# Altium integrated library SMTB-0827-TW-R.IntLib: 1 symbol
Pins are listed as number, name and electrical type; pins without a type are passive.

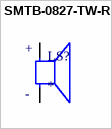
[diagram p0: symbol SMTB-0827-TW-R]

## SMTB-0827-TW-R
designator LS?
SURFACE MOUNT TRANSDUCER 3.6 V0-P; MP: SMTB-0827-TW-R; MF: PUI Audio, Inc.; Purchase-URL: https://pricing.snapeda.com/search/part/SMTB-0827-TW-R/?ref=eda; Package: None; Digi-Key_Part_Number: 668-SMTB-0827-TW-RTR-ND; Check_prices: https://www.snapeda.com/parts/SMTB-0827-TW-R/PUI+Audio%252C+Inc./view-part/?ref=eda; SnapEDA_Link: https://www.snapeda.com/parts/SMTB-0827-TW-R/PUI+Audio%252C+Inc./view-part/?ref=snap; Value: *
footprint XDCR_SMTB-0827-TW-R
pins: N NEG, P POS
text: +; -